# EAGLE library part OPAMP_DUAL_SO8 (library wheat)
Dual opamp in SO8
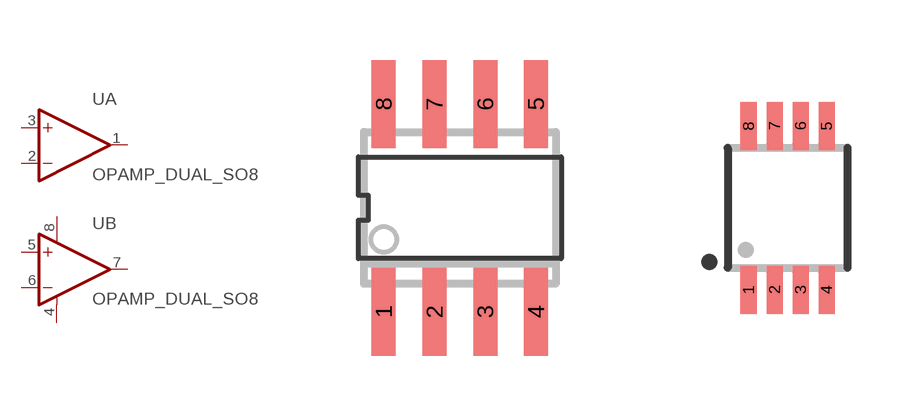
[diagram p106: symbol with the pads of SO8; footprints SO8, MSOP8]

Designator prefix U; gates A=OPAMP B=OPAMP_V

## OPAMP_DUAL_SO8  [SO8]
1  A:OUT  out
2  A:-IN  in
3  A:+IN  in
4  B:V-  pwr
5  B:+IN  in
6  B:-IN  in
7  B:OUT  out
8  B:V+  pwr

## OPAMP_DUAL_SO8_MSOP  [MSOP8]
Pads as for SO8

## Footprint SO8 (pad centres in mm)
SO8
smd 0.6 x 2.2: 1 -1.905,-2.6; 2 -0.635,-2.6; 3 0.635,-2.6; 4 1.905,-2.6; 5 1.905,2.6; 6 0.635,2.6; 7 -0.635,2.6; 8 -1.905,2.6

## Footprint MSOP8 (pad centres in mm)
MSOP8
smd 0.4 x 1.2: 1 0.295,-2.05; 2 0.945,-2.05; 3 1.595,-2.05; 4 2.245,-2.05; 5 2.245,2.05; 6 1.595,2.05; 7 0.945,2.05; 8 0.295,2.05